# Altium schematic symbol library ACS756.Schlib: 1 symbol
Pins are listed as number, name and electrical type; pins without a type are passive.

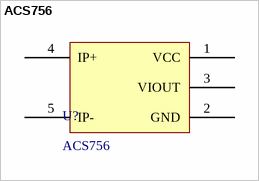
[diagram p0: symbol ACS756]

## ACS756
designator U?
ACS756 50A Current Monitor
pins: 1 VCC, 2 GND, 3 VIOUT, 4 IP+, 5 IP-